# Altium schematic symbol library 20240611-SMARTCAGE-PCB-V2.SchLib: 5 symbols
Pins are listed as number, name and electrical type; pins without a type are passive.

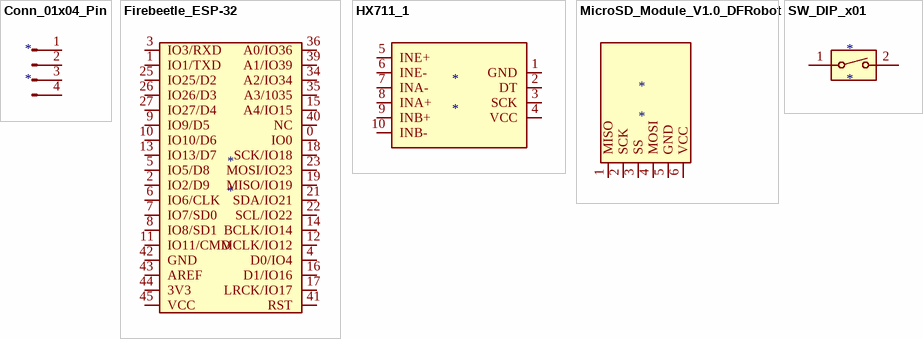
[diagram p0: symbols Conn_01x04_Pin to SW_DIP_x01]

## Conn_01x04_Pin
designator *
pins: 1 Pin_1, 2 Pin_2, 3 Pin_3, 4 Pin_4

## Firebeetle_ESP-32
designator *
pins: 0 IO0, 1 IO1/TXD, 2 IO2/D9, 3 IO3/RXD, 4 D0/IO4, 5 IO5/D8, 6 IO6/CLK, 7 IO7/SD0, 8 IO8/SD1, 9 IO9/D5, 10 IO10/D6, 11 IO11/CMD, 12 MCLK/IO12, 13 IO13/D7, 14 BCLK/IO14, 15 A4/IO15, 16 D1/IO16, 17 LRCK/IO17, 18 SCK/IO18, 19 MISO/IO19, 21 SDA/IO21, 22 SCL/IO22, 23 MOSI/IO23, 25 IO25/D2, 26 IO26/D3, 27 IO27/D4, 34 A2/IO34, 35 A3/1035, 36 A0/IO36, 39 A1/IO39, 40 NC, 41 RST, 42 GND, 43 AREF, 44 3V3, 45 VCC

## HX711_1
designator *
pins: 1 GND, 2 DT, 3 SCK, 4 VCC, 5 INE+, 6 INE-, 7 INA-, 8 INA+, 9 INB+, 10 INB-

## MicroSD_Module_V1.0_DFRobot
designator *
pins: 1 MISO, 2 SCK, 3 SS, 4 MOSI, 5 GND, 6 VCC

## SW_DIP_x01
designator *
pins: 1, 2